# EAGLE library part MC33161PG (library ON Semiconductor_By_element14_Batch_1)
Universal Voltage Monitors
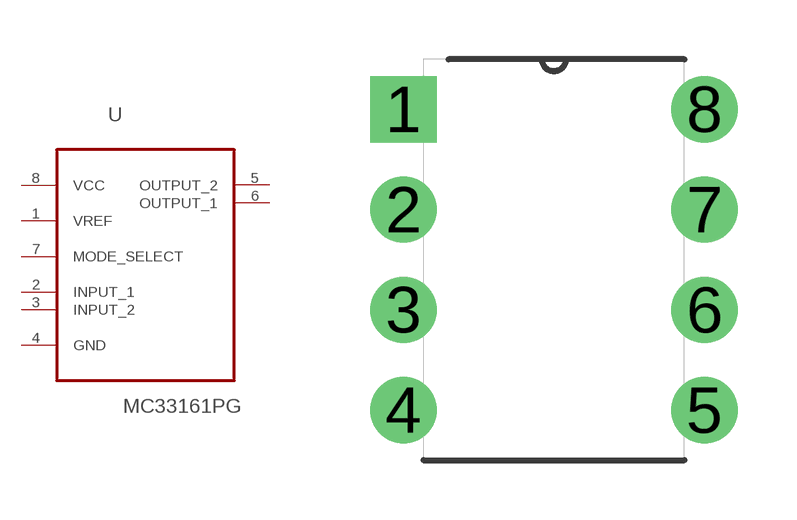
[diagram p352: symbol with the pads of DIP254P762X445-8; footprint DIP254P762X445-8]

Designator prefix U

## MC33161PG (MPN: MC33161PG; OC_FARNELL: -; OC_NEWARK: 45J1168; P1I: o; PACKAGE: PDIP-8; SUPPLIER: ON SEMICONDUCTOR)  [DIP254P762X445-8]
1  VREF  pas
2  INPUT_1  in
3  INPUT_2  in
4  GND  pas
5  OUTPUT_2  out
6  OUTPUT_1  out
7  MODE_SELECT  in
8  VCC  pwr

## Footprint DIP254P762X445-8 (pad centres in mm)
drill 1.118 square: 1 -7.62,7.62
drill 1.118: 2 -7.62,5.08; 3 -7.62,2.54; 4 -7.62,0; 5 0,0; 6 0,2.54; 7 0,5.08; 8 0,7.62